# EAGLE library part NDS-12V (library NDS-12V)
DIP Switches / SIP Switches Dip switch Slide Type Source: Datasheet <https://componentsearchengine.com/Datasheets/1/NDS-12V.pdf>
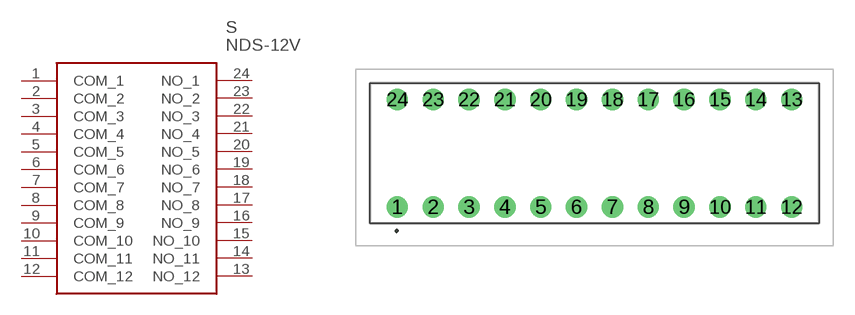
[diagram p0: symbol with the pads of NDS12V; footprint NDS12V]

Designator prefix S

## NDS-12V (Description: DIP Switches / SIP Switches Dip switch Slide Type; Height: 7.05mm; Manufacturer_Name: Diptronics; Manufacturer_Part_Number: NDS-12V)  [NDS12V]
1  COM_1
2  COM_2
3  COM_3
4  COM_4
5  COM_5
6  COM_6
7  COM_7
8  COM_8
9  COM_9
10  COM_10
11  COM_11
12  COM_12
13  NO_12
14  NO_11
15  NO_10
16  NO_9
17  NO_8
18  NO_7
19  NO_6
20  NO_5
21  NO_4
22  NO_3
23  NO_2
24  NO_1

## Footprint NDS12V (pad centres in mm)
NDS-12V-1
drill 0.97 pad 1.509: 1 0,0; 2 2.54,0; 3 5.08,0; 4 7.62,0; 5 10.16,0; 6 12.7,0; 7 15.24,0; 8 17.78,0; 9 20.32,0; 10 22.86,0; 11 25.4,0; 12 27.94,0; 13 27.94,7.62; 14 25.4,7.62; 15 22.86,7.62; 16 20.32,7.62; 17 17.78,7.62; 18 15.24,7.62; 19 12.7,7.62; 20 10.16,7.62; 21 7.62,7.62; 22 5.08,7.62; 23 2.54,7.62; 24 0,7.62